# Altium schematic symbol library SCH_THA.SchLib: 14 symbols
Pins are listed as number, name and electrical type; pins without a type are passive.

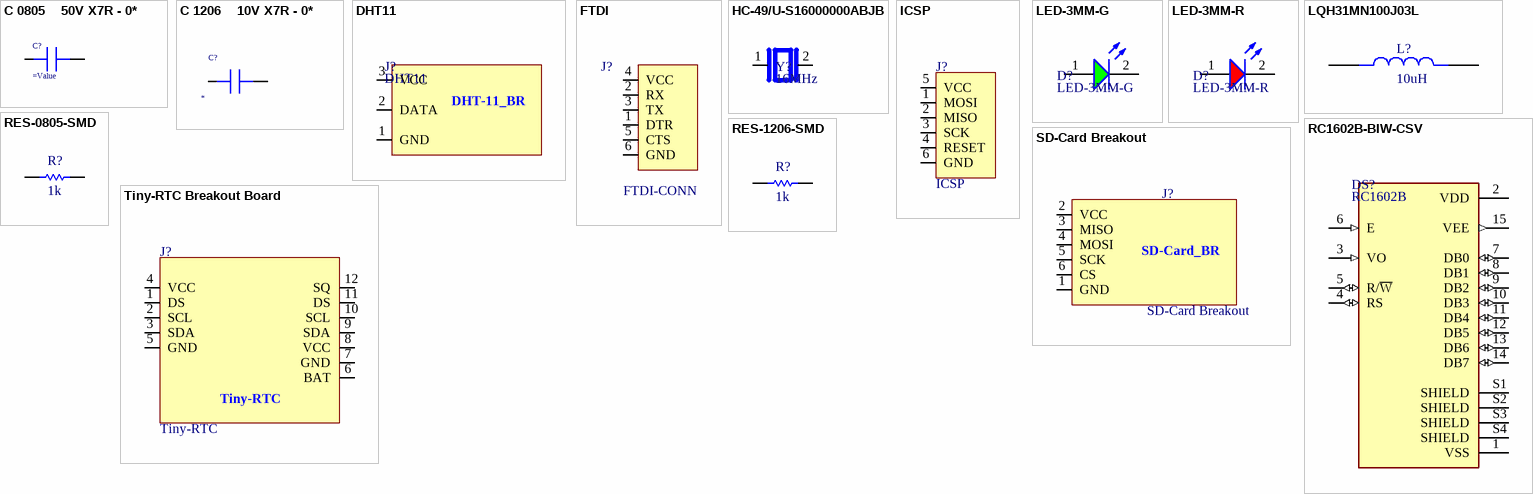
[diagram p0: symbols C 0805    50V X7R - 0* to Tiny-RTC Breakout Board]

## C 0805    50V X7R - 0*
designator C?
SMD 0805     50V X7R 10%; Manufacturer: Samsung; TYPE: Capacitors; Package-mm: 2012; Part Number: *; Mount Type: SMT; Publisher: Hefest; Manufacturer Alternate: *; Part Number Alternate: *; Published: 07.04.2019; Supplier 1: Comet; Supplier 2: *; Supplier 3: *; Supplier Part Number 1: *; Supplier Part Number 2: *; Supplier Part Number 3: *; RoHS: Y; Technology: Ceramic  MLCC; Value 1: *; Value 2: *; Package: 0805; VDC: 50V; TempCo: X7R; Tolerance %: ±10%; VAC: *; ESR Ohm: *; ComponentLink1Description: Datasheet link; ComponentLink1URL: https://store.comet.bg/download-file.php?id=11; Temperature Range: -55°C ~ +125°C; Price: *
footprint C 0805(2012)x0.85
pins: 1, 2
1 alternate drawing of the same symbol

## C 1206    10V X7R - 0*
designator C?
SMD 1206     10V X7R 10%; Manufacturer: Samsung; TYPE: Capacitors; Package-mm: 3216; Part Number: *; Mount Type: SMT; Publisher: Hefest; Manufacturer Alternate: *; Part Number Alternate: *; Published: 07.04.2019; Supplier 1: Comet; Supplier 2: *; Supplier 3: *; Supplier Part Number 1: *; Supplier Part Number 2: *; Supplier Part Number 3: *; RoHS: Y; Technology: Ceramic  MLCC; Value 1: *; Value 2: *; Package: 1206; VDC: 10V; TempCo: X7R; Tolerance %: ±10%; VAC: *; ESR Ohm: *; ComponentLink1Description: Datasheet link; ComponentLink1URL: https://store.comet.bg/download-file.php?id=11; Temperature Range: -55°C ~ +125°C; Price: *; Value: *
footprint C 1206(3216)x0.85
pins: 1, 2
1 alternate drawing of the same symbol

## DHT11
designator J?
footprint DHT11-BREAKOUT
pins: 1 GND, 2 DATA, 3 VCC
text: DHT-11_BR

## FTDI
designator J?, comment FTDI-CONN
footprint FTDI
pins: 1 DTR, 2 RX, 3 TX, 4 VCC (power), 5 CTS, 6 GND (power)

## HC-49/U-S16000000ABJB
designator Y?, comment 16MHz
HC49US Series 16 MHz Â±30 ppm 18 pF -20 to +70 Â°C Through Hole AT-CUT Crystal; MF: {'manufacturer': u'Citizen Finedevice'}; MP: HC-49/U-S16000000ABJB; Package: None; Price: None; Value: *; Availability: Unavailable
footprint XTAL_HC49P488W43L1150T466H350
pins: 1, 2

## ICSP
designator J?
ICSP-CONN
footprint FTDI
pins: 1 MOSI, 2 MISO, 3 SCK, 4 RESET (power), 5 VCC, 6 GND (power)

## LED-3MM-G
designator D?
footprint LED-2.54MM-G
pins: 1 A, 2 K

## LED-3MM-R
designator D?
footprint LED-2.54MM-R
pins: 1 A, 2 K

## LQH31MN100J03L
designator L?, comment 10uH
Wire Wound Ferrite Inductor for General Circuits; MF: {'manufacturer': u'Murata'}; MP: LQH31MN100J03L; Package: None; Price: None; Value: *; Availability: Unavailable
footprint IND_LQH31MN100J03L
pins: 1, 2

## RC1602B-BIW-CSV
designator DS?, comment RC1602B
Display: LCD; alphanumeric; STN Negative; 16x2; blue; LED; PIN: 16; MF: {'manufacturer': u'Raystar'}; MP: RC1602B-BIW-CSV; Package: None; Price: None; Value: *; Availability: Unavailable
footprint LCD_RC1602B-BIW-CSV
pins: 1 VSS (power), 2 VDD (power), 3 VO (in), 4 RS (io), 5 R/~{W} (io), 6 E (in), 7 DB0 (io), 8 DB1 (io), 9 DB2 (io), 10 DB3 (io), 11 DB4 (io), 12 DB5 (io), 13 DB6 (io), 14 DB7 (io), 15 VEE (out), S1 SHIELD, S2 SHIELD, S3 SHIELD, S4 SHIELD

## RES-0805-SMD
designator R?, comment 1k
Value: 1k
footprint RESC2013X50X30LL20T20 (Chip Resistor, 2-Leads, Body 2.00x1.25mm, IPC High Density)
footprint RESC2013X50X30ML20T20 (Chip Resistor, 2-Leads, Body 2.00x1.25mm, IPC Low Density)
footprint RESC2013X50X30NL20T20 (Chip Resistor, 2-Leads, Body 2.00x1.25mm, IPC Medium Density)
pins: 1, 2

## RES-1206-SMD
designator R?, comment 1k
Value: 1k
footprint FP-CRCW1206-e3-IPC_B
footprint FP-CRCW1206-e3-IPC_A
footprint FP-CRCW1206-e3-IPC_C
pins: 1, 2

## SD-Card Breakout
designator J?
footprint SD-Card Breakout
pins: 1 GND, 2 VCC, 3 MISO, 4 MOSI, 5 SCK, 6 CS
text: SD-Card_BR

## Tiny-RTC Breakout Board
designator J?, comment Tiny-RTC
footprint Tiny-RTC
pins: 1 DS, 2 SCL, 3 SDA, 4 VCC, 5 GND, 6 BAT, 7 GND, 8 VCC, 9 SDA, 10 SCL, 11 DS, 12 SQ